# EAGLE library part 146134-40 (library con-tyco-mod-II)
HEADER
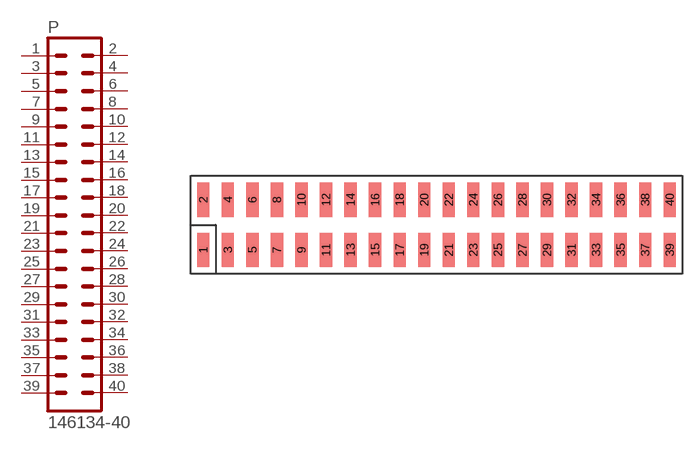
[diagram p17: symbol with the pads of 146134-40; footprint 146134-40]

Designator prefix P

## 146134-40  [146134-40]
1  1  pas
2  2  pas
3  3  pas
4  4  pas
5  5  pas
6  6  pas
7  7  pas
8  8  pas
9  9  pas
10  10  pas
11  11  pas
12  12  pas
13  13  pas
14  14  pas
15  15  pas
16  16  pas
17  17  pas
18  18  pas
19  19  pas
20  20  pas
21  21  pas
22  22  pas
23  23  pas
24  24  pas
25  25  pas
26  26  pas
27  27  pas
28  28  pas
29  29  pas
30  30  pas
31  31  pas
32  32  pas
33  33  pas
34  34  pas
35  35  pas
36  36  pas
37  37  pas
38  38  pas
39  39  pas
40  40  pas

## Footprint 146134-40 (pad centres in mm)
HEADER
smd 1.27 x 3.556: 1 -24.13,-2.603; 2 -24.13,2.603; 3 -21.59,-2.603; 4 -21.59,2.603; 5 -19.05,-2.603; 6 -19.05,2.603; 7 -16.51,-2.603; 8 -16.51,2.603; 9 -13.97,-2.603; 10 -13.97,2.603; 11 -11.43,-2.603; 12 -11.43,2.603; 13 -8.89,-2.603; 14 -8.89,2.603; 15 -6.35,-2.603; 16 -6.35,2.603; 17 -3.81,-2.603; 18 -3.81,2.603; 19 -1.27,-2.603; 20 -1.27,2.603; 21 1.27,-2.603; 22 1.27,2.603; 23 3.81,-2.603; 24 3.81,2.603; 25 6.35,-2.603; 26 6.35,2.603; 27 8.89,-2.603; 28 8.89,2.603; 29 11.43,-2.603; 30 11.43,2.603; 31 13.97,-2.603; 32 13.97,2.603; 33 16.51,-2.603; 34 16.51,2.603; 35 19.05,-2.603; 36 19.05,2.603; 37 21.59,-2.603; 38 21.59,2.603; 39 24.13,-2.603; 40 24.13,2.603